# Altium integrated library Linear Technology Operational Amplifiers (LT2000-LT6000).IntLib: 1710 symbols (part 22 of 75)
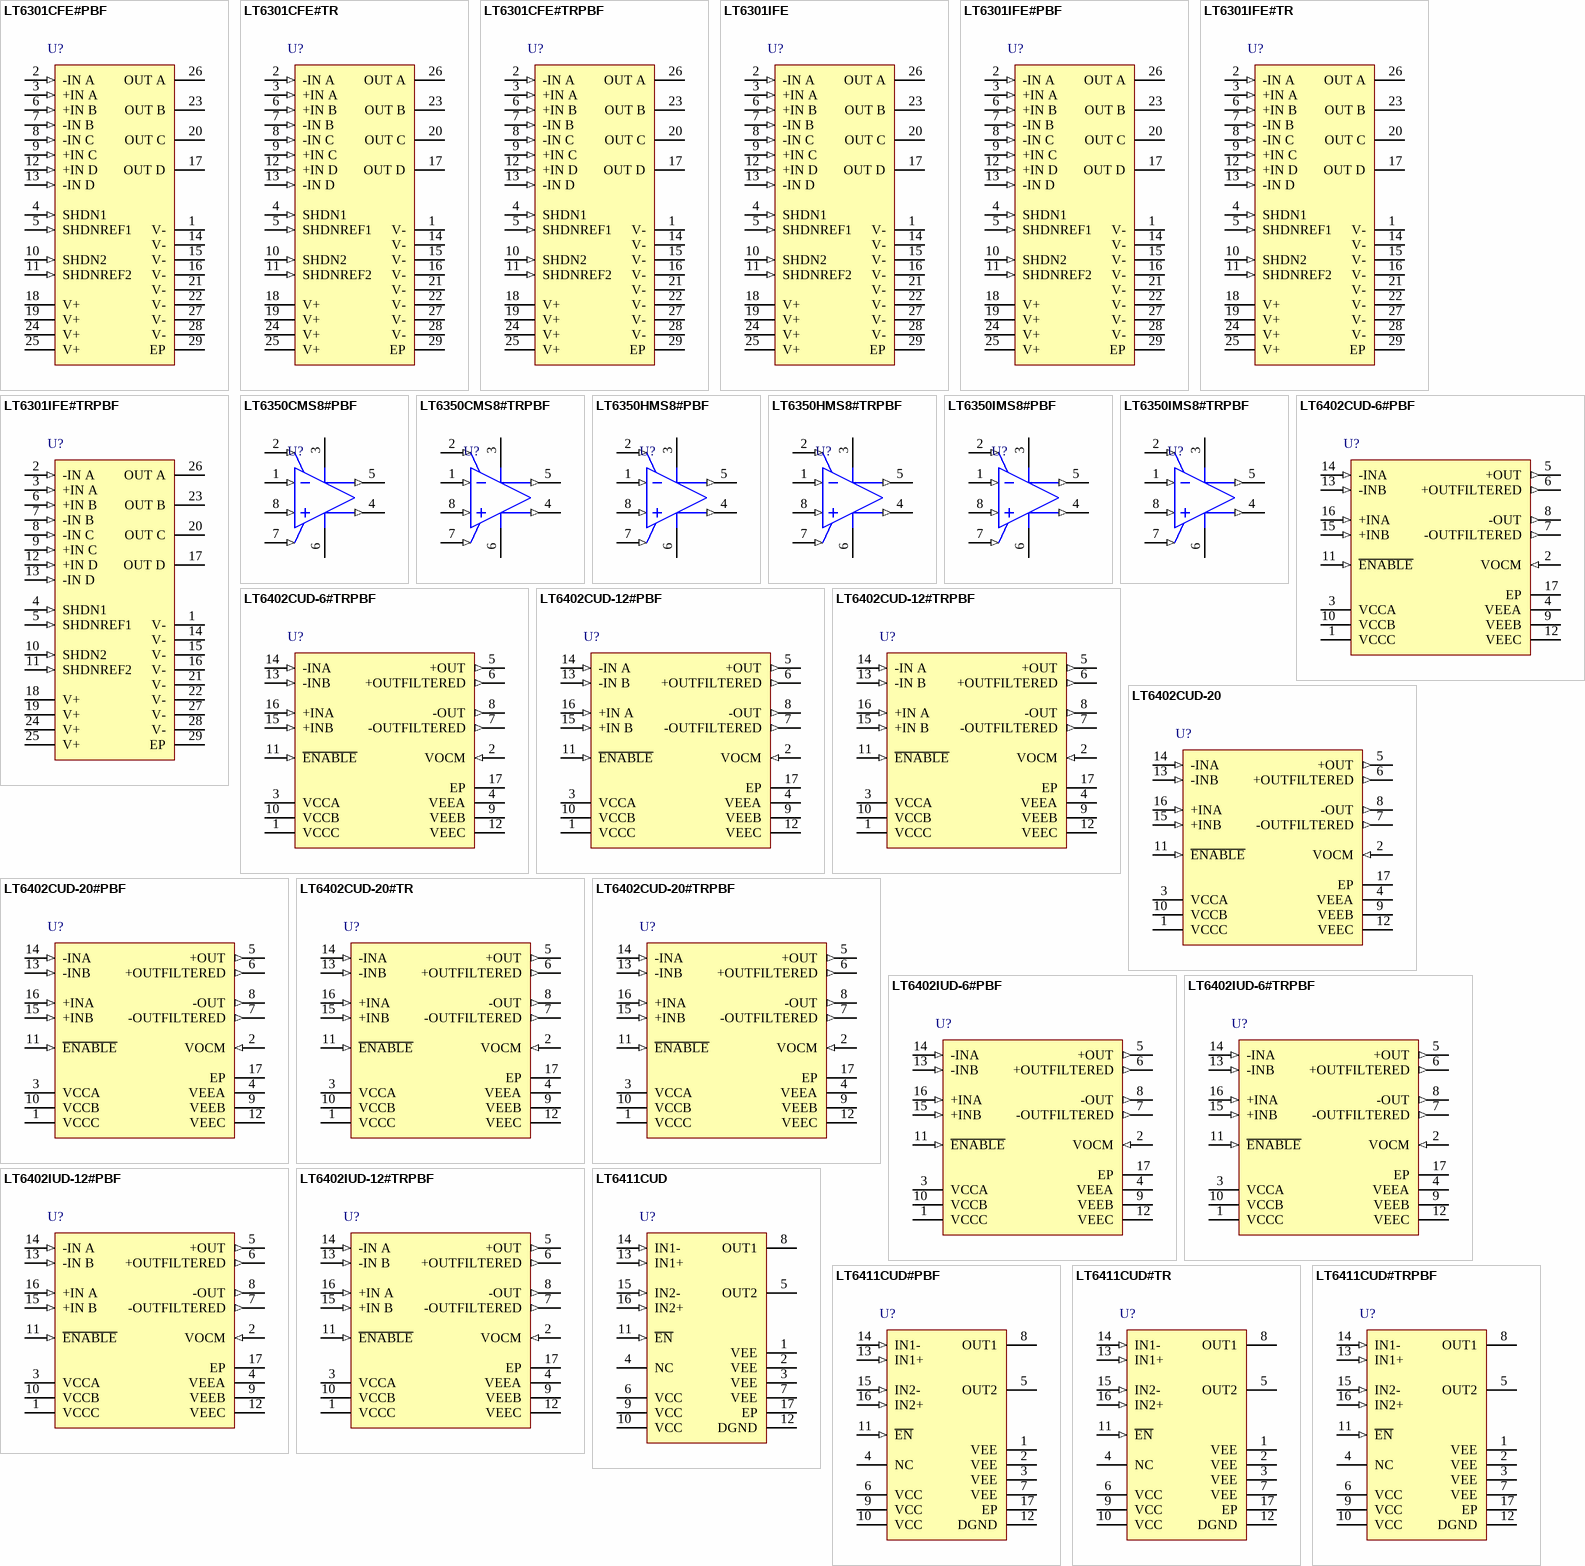
[diagram p101: symbols LT6301CFE#PBF to LT6411CUD#TRPBF]

## LT6411CUD
designator U?
Dual Channel, 650 MHz Differential ADC Driver with Dual Selectable Gain Amplifier, 650 MHz Typical GBW, 3300 V/us Typical SR, 4.5 to 12.6 V, 16-Pin QFN (UD-16), Commercial; Linear Technology Part Number: LT6411; Manufacturer: Linear Technology; PartNumber: LT6411CUD; Channels (#): 2; GBW (MHz) Typical: 650; Is (mA) Typical: 16; SR (V/us) Typical: 3300; Vos (mV) Guaranteed: 10; Vos (mV) Typical: 3; Vs Max (V): 12.6; Vs Min (V): 4.5; PackageReference: LT-UD-16; PackageDescription: 16-Lead Plastic QFN, Body 3.00 x 3.00 mm, Pitch 0.5 mm; Type: VFB, DIFF; Mounting Technology: Surface Mount; Code_JEDEC: MO-220; ComponentLink1Description: Manufacturer URL; ComponentLink1URL: http://www.linear.com/; ComponentLink2Description: Datasheet; ComponentLink2URL: http://cds.linear.com/docs/en/datasheet/6411f.pdf; ComponentLink3Description: Package Specification; ComponentLink3URL: http://cds.linear.com/docs/en/packaging/QFN_16_05-08-1691.pdf
footprint LT-UD-16_N (QFN, 16-Leads, Body 3x3mm, Pitch 0.5mm, Thermal Pad 1.45x1.45mm, IPC Medium Density)
footprint LT-UD-16_L (QFN, 16-Leads, Body 3x3mm, Pitch 0.5mm, Thermal Pad 1.45x1.45mm, IPC High Density)
footprint LT-UD-16_M (QFN, 16-Leads, Body 3x3mm, Pitch 0.5mm, Thermal Pad 1.45x1.45mm, IPC Low Density)
pins: 1 VEE (power) "Negative Supply Voltage. VEE pins are not internally connected to each other and must all be connected externally. Proper supply bypassing is necessary for best performance. See the Applications Information section.", 2 VEE (power) "Negative Supply Voltage. VEE pins are not internally connected to each other and must all be connected externally. Proper supply bypassing is necessary for best performance. See the Applications Information section.", 3 VEE (power) "Negative Supply Voltage for Output Stage. VEE pins are not internally connected to each other and must all be connected externally. Proper supply bypassing is necessary for best performance. See the Applications Information (See Datasheet)", 4 NC "This pin is not internally connected.", 5 OUT2 (hiz) "Output of Channel 2. The gain between the input and the output of this channel is set by the connection of the channel 2 input pins. See Table 1 in Applications Information for details.", 6 VCC (power) "Positive Supply Voltage for Output Stage. VCC pins are not internally connected to each other and must all be connected externally. Proper supply bypassing is necessary for best performance. See the Applications Information (See Datasheet)", 7 VEE (power) "Negative Supply Voltage for Output Stage. VEE pins are not internally connected to each other and must all be connected externally. Proper supply bypassing is necessary for best performance. See the Applications Information (See Datasheet)", 8 OUT1 (hiz) "Output of Channel 1. The gain between the input and the output of this channel is set by the connection of the channel 1 input pins. See Table 1 in Applications Information for details.", 9 VCC (power) "Positive Supply Voltage for Output Stage. VCC pins are not internally connected to each other and must all be connected externally. Proper supply bypassing is necessary for best performance. See the Applications Information (See Datasheet)", 10 VCC (power) "Positive Supply Voltage. VCC pins are not internally connected to each other and must all be connected externally. Proper supply bypassing is necessary for best performance. See the Applications Information section.", 11 ~{EN} (in) "Enable Control Pin. An internal pull-up resistor of 46k will turn the part off if the pin is allowed to fl oat and defi nes the pin’s impedance. When the pin is pulled low, the part is enabled.", 12 DGND (power) "Digital Ground Reference for Enable Pin. This pin is normally connected to ground.", 13 IN1+ (in) "Channel 1 Positive Input. This pin has a nominal impedance of 400k ohm and does not have an internal termination resistor.", 14 IN1- (in) "This pin connects to the internal resistor network of the channel 1 amplifier, connecting by a 370ohm resistor to the inverting input.", 15 IN2- (in) "This pin connects to the internal resistor network of the channel 2 amplifier, connecting by a 370ohm resistor to the inverting input.", 16 IN2+ (in) "Channel 2 Positive Input. This pin has a nominal impedance of 400k ohm and does not have an internal termination resistor.", 17 EP (power) "The pad is internally connected to VEE (Pin 1). If split supplies are used, do not tie the pad to ground."

## LT6411CUD#PBF
designator U?
Dual Channel, 650 MHz Differential ADC Driver with Dual Selectable Gain Amplifier, 650 MHz Typical GBW, 3300 V/us Typical SR, 4.5 to 12.6 V, 16-Pin QFN (UD-16), Commercial, Pb-Free; Linear Technology Part Number: LT6411; Manufacturer: Linear Technology; PartNumber: LT6411CUD#PBF; Channels (#): 2; GBW (MHz) Typical: 650; Is (mA) Typical: 16; SR (V/us) Typical: 3300; Vos (mV) Guaranteed: 10; Vos (mV) Typical: 3; Vs Max (V): 12.6; Vs Min (V): 4.5; PackageReference: LT-UD-16; PackageDescription: 16-Lead Plastic QFN, Body 3.00 x 3.00 mm, Pitch 0.5 mm; Supplier 1: Digi-Key; Supplier Part Number 1: LT6411CUD#PBF-ND; RoHS: Pb-Free; Type: VFB, DIFF; Mounting Technology: Surface Mount; Code_JEDEC: MO-220; ComponentLink1Description: Manufacturer URL; ComponentLink1URL: http://www.linear.com/; ComponentLink2Description: Datasheet; ComponentLink2URL: http://cds.linear.com/docs/en/datasheet/6411f.pdf; ComponentLink3Description: Package Specification; ComponentLink3URL: http://cds.linear.com/docs/en/packaging/QFN_16_05-08-1691.pdf
footprint LT-UD-16_N (QFN, 16-Leads, Body 3x3mm, Pitch 0.5mm, Thermal Pad 1.45x1.45mm, IPC Medium Density)
footprint LT-UD-16_L (QFN, 16-Leads, Body 3x3mm, Pitch 0.5mm, Thermal Pad 1.45x1.45mm, IPC High Density)
footprint LT-UD-16_M (QFN, 16-Leads, Body 3x3mm, Pitch 0.5mm, Thermal Pad 1.45x1.45mm, IPC Low Density)
pins: 1 VEE (power) "Negative Supply Voltage. VEE pins are not internally connected to each other and must all be connected externally. Proper supply bypassing is necessary for best performance. See the Applications Information section.", 2 VEE (power) "Negative Supply Voltage. VEE pins are not internally connected to each other and must all be connected externally. Proper supply bypassing is necessary for best performance. See the Applications Information section.", 3 VEE (power) "Negative Supply Voltage for Output Stage. VEE pins are not internally connected to each other and must all be connected externally. Proper supply bypassing is necessary for best performance. See the Applications Information (See Datasheet)", 4 NC "This pin is not internally connected.", 5 OUT2 (hiz) "Output of Channel 2. The gain between the input and the output of this channel is set by the connection of the channel 2 input pins. See Table 1 in Applications Information for details.", 6 VCC (power) "Positive Supply Voltage for Output Stage. VCC pins are not internally connected to each other and must all be connected externally. Proper supply bypassing is necessary for best performance. See the Applications Information (See Datasheet)", 7 VEE (power) "Negative Supply Voltage for Output Stage. VEE pins are not internally connected to each other and must all be connected externally. Proper supply bypassing is necessary for best performance. See the Applications Information (See Datasheet)", 8 OUT1 (hiz) "Output of Channel 1. The gain between the input and the output of this channel is set by the connection of the channel 1 input pins. See Table 1 in Applications Information for details.", 9 VCC (power) "Positive Supply Voltage for Output Stage. VCC pins are not internally connected to each other and must all be connected externally. Proper supply bypassing is necessary for best performance. See the Applications Information (See Datasheet)", 10 VCC (power) "Positive Supply Voltage. VCC pins are not internally connected to each other and must all be connected externally. Proper supply bypassing is necessary for best performance. See the Applications Information section.", 11 ~{EN} (in) "Enable Control Pin. An internal pull-up resistor of 46k will turn the part off if the pin is allowed to fl oat and defi nes the pin’s impedance. When the pin is pulled low, the part is enabled.", 12 DGND (power) "Digital Ground Reference for Enable Pin. This pin is normally connected to ground.", 13 IN1+ (in) "Channel 1 Positive Input. This pin has a nominal impedance of 400k ohm and does not have an internal termination resistor.", 14 IN1- (in) "This pin connects to the internal resistor network of the channel 1 amplifier, connecting by a 370ohm resistor to the inverting input.", 15 IN2- (in) "This pin connects to the internal resistor network of the channel 2 amplifier, connecting by a 370ohm resistor to the inverting input.", 16 IN2+ (in) "Channel 2 Positive Input. This pin has a nominal impedance of 400k ohm and does not have an internal termination resistor.", 17 EP (power) "The pad is internally connected to VEE (Pin 1). If split supplies are used, do not tie the pad to ground."

## LT6411CUD#TR
designator U?
Dual Channel, 650 MHz Differential ADC Driver with Dual Selectable Gain Amplifier, 650 MHz Typical GBW, 3300 V/us Typical SR, 4.5 to 12.6 V, 16-Pin QFN (UD-16), Commercial, Reel; Linear Technology Part Number: LT6411; Manufacturer: Linear Technology; PartNumber: LT6411CUD#TR; Channels (#): 2; GBW (MHz) Typical: 650; Is (mA) Typical: 16; SR (V/us) Typical: 3300; Vos (mV) Guaranteed: 10; Vos (mV) Typical: 3; Vs Max (V): 12.6; Vs Min (V): 4.5; PackageReference: LT-UD-16; PackageDescription: 16-Lead Plastic QFN, Body 3.00 x 3.00 mm, Pitch 0.5 mm; Packing: Reel; Type: VFB, DIFF; Mounting Technology: Surface Mount; Code_JEDEC: MO-220; ComponentLink1Description: Manufacturer URL; ComponentLink1URL: http://www.linear.com/; ComponentLink2Description: Datasheet; ComponentLink2URL: http://cds.linear.com/docs/en/datasheet/6411f.pdf; ComponentLink3Description: Package Specification; ComponentLink3URL: http://cds.linear.com/docs/en/packaging/QFN_16_05-08-1691.pdf
footprint LT-UD-16_N (QFN, 16-Leads, Body 3x3mm, Pitch 0.5mm, Thermal Pad 1.45x1.45mm, IPC Medium Density)
footprint LT-UD-16_L (QFN, 16-Leads, Body 3x3mm, Pitch 0.5mm, Thermal Pad 1.45x1.45mm, IPC High Density)
footprint LT-UD-16_M (QFN, 16-Leads, Body 3x3mm, Pitch 0.5mm, Thermal Pad 1.45x1.45mm, IPC Low Density)
pins: 1 VEE (power) "Negative Supply Voltage. VEE pins are not internally connected to each other and must all be connected externally. Proper supply bypassing is necessary for best performance. See the Applications Information section.", 2 VEE (power) "Negative Supply Voltage. VEE pins are not internally connected to each other and must all be connected externally. Proper supply bypassing is necessary for best performance. See the Applications Information section.", 3 VEE (power) "Negative Supply Voltage for Output Stage. VEE pins are not internally connected to each other and must all be connected externally. Proper supply bypassing is necessary for best performance. See the Applications Information (See Datasheet)", 4 NC "This pin is not internally connected.", 5 OUT2 (hiz) "Output of Channel 2. The gain between the input and the output of this channel is set by the connection of the channel 2 input pins. See Table 1 in Applications Information for details.", 6 VCC (power) "Positive Supply Voltage for Output Stage. VCC pins are not internally connected to each other and must all be connected externally. Proper supply bypassing is necessary for best performance. See the Applications Information (See Datasheet)", 7 VEE (power) "Negative Supply Voltage for Output Stage. VEE pins are not internally connected to each other and must all be connected externally. Proper supply bypassing is necessary for best performance. See the Applications Information (See Datasheet)", 8 OUT1 (hiz) "Output of Channel 1. The gain between the input and the output of this channel is set by the connection of the channel 1 input pins. See Table 1 in Applications Information for details.", 9 VCC (power) "Positive Supply Voltage for Output Stage. VCC pins are not internally connected to each other and must all be connected externally. Proper supply bypassing is necessary for best performance. See the Applications Information (See Datasheet)", 10 VCC (power) "Positive Supply Voltage. VCC pins are not internally connected to each other and must all be connected externally. Proper supply bypassing is necessary for best performance. See the Applications Information section.", 11 ~{EN} (in) "Enable Control Pin. An internal pull-up resistor of 46k will turn the part off if the pin is allowed to fl oat and defi nes the pin’s impedance. When the pin is pulled low, the part is enabled.", 12 DGND (power) "Digital Ground Reference for Enable Pin. This pin is normally connected to ground.", 13 IN1+ (in) "Channel 1 Positive Input. This pin has a nominal impedance of 400k ohm and does not have an internal termination resistor.", 14 IN1- (in) "This pin connects to the internal resistor network of the channel 1 amplifier, connecting by a 370ohm resistor to the inverting input.", 15 IN2- (in) "This pin connects to the internal resistor network of the channel 2 amplifier, connecting by a 370ohm resistor to the inverting input.", 16 IN2+ (in) "Channel 2 Positive Input. This pin has a nominal impedance of 400k ohm and does not have an internal termination resistor.", 17 EP (power) "The pad is internally connected to VEE (Pin 1). If split supplies are used, do not tie the pad to ground."

## LT6411CUD#TRPBF
designator U?
Dual Channel, 650 MHz Differential ADC Driver with Dual Selectable Gain Amplifier, 650 MHz Typical GBW, 3300 V/us Typical SR, 4.5 to 12.6 V, 16-Pin QFN (UD-16), Commercial, Pb-Free, Reel; Linear Technology Part Number: LT6411; Manufacturer: Linear Technology; PartNumber: LT6411CUD#TRPBF; Channels (#): 2; GBW (MHz) Typical: 650; Is (mA) Typical: 16; SR (V/us) Typical: 3300; Vos (mV) Guaranteed: 10; Vos (mV) Typical: 3; Vs Max (V): 12.6; Vs Min (V): 4.5; PackageReference: LT-UD-16; PackageDescription: 16-Lead Plastic QFN, Body 3.00 x 3.00 mm, Pitch 0.5 mm; Supplier 1: Digi-Key; Supplier Part Number 1: LT6411CUD#TRPBF-ND; Packing: Reel; RoHS: Pb-Free; Type: VFB, DIFF; Mounting Technology: Surface Mount; Code_JEDEC: MO-220; ComponentLink1Description: Manufacturer URL; ComponentLink1URL: http://www.linear.com/; ComponentLink2Description: Datasheet; ComponentLink2URL: http://cds.linear.com/docs/en/datasheet/6411f.pdf; ComponentLink3Description: Package Specification; ComponentLink3URL: http://cds.linear.com/docs/en/packaging/QFN_16_05-08-1691.pdf
footprint LT-UD-16_N (QFN, 16-Leads, Body 3x3mm, Pitch 0.5mm, Thermal Pad 1.45x1.45mm, IPC Medium Density)
footprint LT-UD-16_L (QFN, 16-Leads, Body 3x3mm, Pitch 0.5mm, Thermal Pad 1.45x1.45mm, IPC High Density)
footprint LT-UD-16_M (QFN, 16-Leads, Body 3x3mm, Pitch 0.5mm, Thermal Pad 1.45x1.45mm, IPC Low Density)
pins: 1 VEE (power) "Negative Supply Voltage. VEE pins are not internally connected to each other and must all be connected externally. Proper supply bypassing is necessary for best performance. See the Applications Information section.", 2 VEE (power) "Negative Supply Voltage. VEE pins are not internally connected to each other and must all be connected externally. Proper supply bypassing is necessary for best performance. See the Applications Information section.", 3 VEE (power) "Negative Supply Voltage for Output Stage. VEE pins are not internally connected to each other and must all be connected externally. Proper supply bypassing is necessary for best performance. See the Applications Information (See Datasheet)", 4 NC "This pin is not internally connected.", 5 OUT2 (hiz) "Output of Channel 2. The gain between the input and the output of this channel is set by the connection of the channel 2 input pins. See Table 1 in Applications Information for details.", 6 VCC (power) "Positive Supply Voltage for Output Stage. VCC pins are not internally connected to each other and must all be connected externally. Proper supply bypassing is necessary for best performance. See the Applications Information (See Datasheet)", 7 VEE (power) "Negative Supply Voltage for Output Stage. VEE pins are not internally connected to each other and must all be connected externally. Proper supply bypassing is necessary for best performance. See the Applications Information (See Datasheet)", 8 OUT1 (hiz) "Output of Channel 1. The gain between the input and the output of this channel is set by the connection of the channel 1 input pins. See Table 1 in Applications Information for details.", 9 VCC (power) "Positive Supply Voltage for Output Stage. VCC pins are not internally connected to each other and must all be connected externally. Proper supply bypassing is necessary for best performance. See the Applications Information (See Datasheet)", 10 VCC (power) "Positive Supply Voltage. VCC pins are not internally connected to each other and must all be connected externally. Proper supply bypassing is necessary for best performance. See the Applications Information section.", 11 ~{EN} (in) "Enable Control Pin. An internal pull-up resistor of 46k will turn the part off if the pin is allowed to fl oat and defi nes the pin’s impedance. When the pin is pulled low, the part is enabled.", 12 DGND (power) "Digital Ground Reference for Enable Pin. This pin is normally connected to ground.", 13 IN1+ (in) "Channel 1 Positive Input. This pin has a nominal impedance of 400k ohm and does not have an internal termination resistor.", 14 IN1- (in) "This pin connects to the internal resistor network of the channel 1 amplifier, connecting by a 370ohm resistor to the inverting input.", 15 IN2- (in) "This pin connects to the internal resistor network of the channel 2 amplifier, connecting by a 370ohm resistor to the inverting input.", 16 IN2+ (in) "Channel 2 Positive Input. This pin has a nominal impedance of 400k ohm and does not have an internal termination resistor.", 17 EP (power) "The pad is internally connected to VEE (Pin 1). If split supplies are used, do not tie the pad to ground."

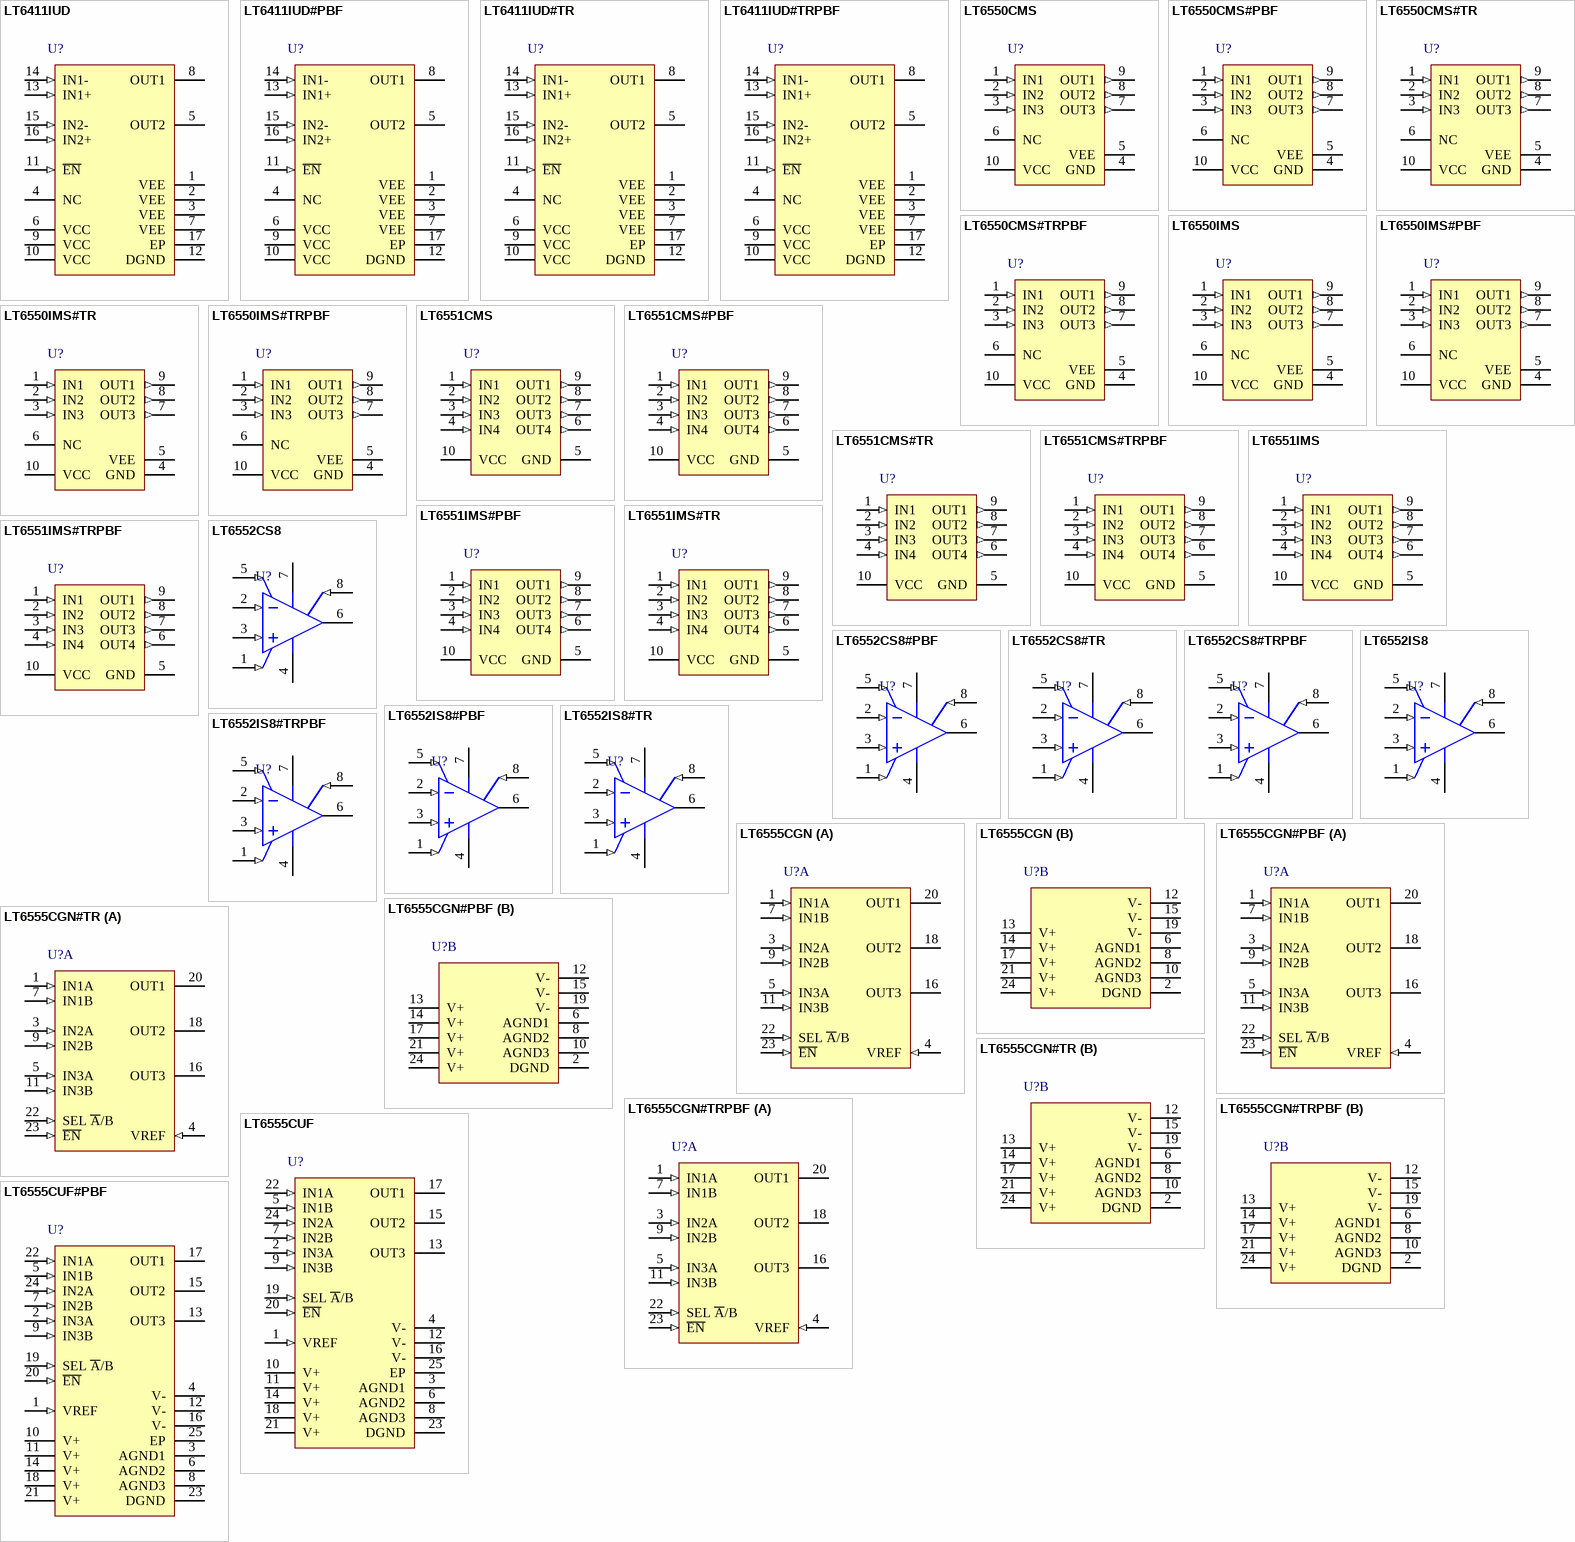
[diagram p32: symbols LT6411IUD to LT6555CUF#PBF]

## LT6411IUD
designator U?
Dual Channel, 650 MHz Differential ADC Driver with Dual Selectable Gain Amplifier, 650 MHz Typical GBW, 3300 V/us Typical SR, 4.5 to 12.6 V, 16-Pin QFN (UD-16), Industrial; Linear Technology Part Number: LT6411; Manufacturer: Linear Technology; PartNumber: LT6411IUD; Channels (#): 2; GBW (MHz) Typical: 650; Is (mA) Typical: 16; SR (V/us) Typical: 3300; Vos (mV) Guaranteed: 10; Vos (mV) Typical: 3; Vs Max (V): 12.6; Vs Min (V): 4.5; PackageReference: LT-UD-16; PackageDescription: 16-Lead Plastic QFN, Body 3.00 x 3.00 mm, Pitch 0.5 mm; Type: VFB, DIFF; Mounting Technology: Surface Mount; Code_JEDEC: MO-220; ComponentLink1Description: Manufacturer URL; ComponentLink1URL: http://www.linear.com/; ComponentLink2Description: Datasheet; ComponentLink2URL: http://cds.linear.com/docs/en/datasheet/6411f.pdf; ComponentLink3Description: Package Specification; ComponentLink3URL: http://cds.linear.com/docs/en/packaging/QFN_16_05-08-1691.pdf
footprint LT-UD-16_N (QFN, 16-Leads, Body 3x3mm, Pitch 0.5mm, Thermal Pad 1.45x1.45mm, IPC Medium Density)
footprint LT-UD-16_L (QFN, 16-Leads, Body 3x3mm, Pitch 0.5mm, Thermal Pad 1.45x1.45mm, IPC High Density)
footprint LT-UD-16_M (QFN, 16-Leads, Body 3x3mm, Pitch 0.5mm, Thermal Pad 1.45x1.45mm, IPC Low Density)
pins: 1 VEE (power) "Negative Supply Voltage. VEE pins are not internally connected to each other and must all be connected externally. Proper supply bypassing is necessary for best performance. See the Applications Information section.", 2 VEE (power) "Negative Supply Voltage. VEE pins are not internally connected to each other and must all be connected externally. Proper supply bypassing is necessary for best performance. See the Applications Information section.", 3 VEE (power) "Negative Supply Voltage for Output Stage. VEE pins are not internally connected to each other and must all be connected externally. Proper supply bypassing is necessary for best performance. See the Applications Information (See Datasheet)", 4 NC "This pin is not internally connected.", 5 OUT2 (hiz) "Output of Channel 2. The gain between the input and the output of this channel is set by the connection of the channel 2 input pins. See Table 1 in Applications Information for details.", 6 VCC (power) "Positive Supply Voltage for Output Stage. VCC pins are not internally connected to each other and must all be connected externally. Proper supply bypassing is necessary for best performance. See the Applications Information (See Datasheet)", 7 VEE (power) "Negative Supply Voltage for Output Stage. VEE pins are not internally connected to each other and must all be connected externally. Proper supply bypassing is necessary for best performance. See the Applications Information (See Datasheet)", 8 OUT1 (hiz) "Output of Channel 1. The gain between the input and the output of this channel is set by the connection of the channel 1 input pins. See Table 1 in Applications Information for details.", 9 VCC (power) "Positive Supply Voltage for Output Stage. VCC pins are not internally connected to each other and must all be connected externally. Proper supply bypassing is necessary for best performance. See the Applications Information (See Datasheet)", 10 VCC (power) "Positive Supply Voltage. VCC pins are not internally connected to each other and must all be connected externally. Proper supply bypassing is necessary for best performance. See the Applications Information section.", 11 ~{EN} (in) "Enable Control Pin. An internal pull-up resistor of 46k will turn the part off if the pin is allowed to fl oat and defi nes the pin’s impedance. When the pin is pulled low, the part is enabled.", 12 DGND (power) "Digital Ground Reference for Enable Pin. This pin is normally connected to ground.", 13 IN1+ (in) "Channel 1 Positive Input. This pin has a nominal impedance of 400k ohm and does not have an internal termination resistor.", 14 IN1- (in) "This pin connects to the internal resistor network of the channel 1 amplifier, connecting by a 370ohm resistor to the inverting input.", 15 IN2- (in) "This pin connects to the internal resistor network of the channel 2 amplifier, connecting by a 370ohm resistor to the inverting input.", 16 IN2+ (in) "Channel 2 Positive Input. This pin has a nominal impedance of 400k ohm and does not have an internal termination resistor.", 17 EP (power) "The pad is internally connected to VEE (Pin 1). If split supplies are used, do not tie the pad to ground."

## LT6411IUD#PBF
designator U?
Dual Channel, 650 MHz Differential ADC Driver with Dual Selectable Gain Amplifier, 650 MHz Typical GBW, 3300 V/us Typical SR, 4.5 to 12.6 V, 16-Pin QFN (UD-16), Industrial, Pb-Free; Linear Technology Part Number: LT6411; Manufacturer: Linear Technology; PartNumber: LT6411IUD#PBF; Channels (#): 2; GBW (MHz) Typical: 650; Is (mA) Typical: 16; SR (V/us) Typical: 3300; Vos (mV) Guaranteed: 10; Vos (mV) Typical: 3; Vs Max (V): 12.6; Vs Min (V): 4.5; PackageReference: LT-UD-16; PackageDescription: 16-Lead Plastic QFN, Body 3.00 x 3.00 mm, Pitch 0.5 mm; Supplier 1: Digi-Key; Supplier Part Number 1: LT6411IUD#PBF-ND; Supplier 2: Newark; Supplier Part Number 2: 57M9436; RoHS: Pb-Free; Type: VFB, DIFF; Mounting Technology: Surface Mount; Code_JEDEC: MO-220; ComponentLink1Description: Manufacturer URL; ComponentLink1URL: http://www.linear.com/; ComponentLink2Description: Datasheet; ComponentLink2URL: http://cds.linear.com/docs/en/datasheet/6411f.pdf; ComponentLink3Description: Package Specification; ComponentLink3URL: http://cds.linear.com/docs/en/packaging/QFN_16_05-08-1691.pdf
footprint LT-UD-16_N (QFN, 16-Leads, Body 3x3mm, Pitch 0.5mm, Thermal Pad 1.45x1.45mm, IPC Medium Density)
footprint LT-UD-16_L (QFN, 16-Leads, Body 3x3mm, Pitch 0.5mm, Thermal Pad 1.45x1.45mm, IPC High Density)
footprint LT-UD-16_M (QFN, 16-Leads, Body 3x3mm, Pitch 0.5mm, Thermal Pad 1.45x1.45mm, IPC Low Density)
pins: 1 VEE (power) "Negative Supply Voltage. VEE pins are not internally connected to each other and must all be connected externally. Proper supply bypassing is necessary for best performance. See the Applications Information section.", 2 VEE (power) "Negative Supply Voltage. VEE pins are not internally connected to each other and must all be connected externally. Proper supply bypassing is necessary for best performance. See the Applications Information section.", 3 VEE (power) "Negative Supply Voltage for Output Stage. VEE pins are not internally connected to each other and must all be connected externally. Proper supply bypassing is necessary for best performance. See the Applications Information (See Datasheet)", 4 NC "This pin is not internally connected.", 5 OUT2 (hiz) "Output of Channel 2. The gain between the input and the output of this channel is set by the connection of the channel 2 input pins. See Table 1 in Applications Information for details.", 6 VCC (power) "Positive Supply Voltage for Output Stage. VCC pins are not internally connected to each other and must all be connected externally. Proper supply bypassing is necessary for best performance. See the Applications Information (See Datasheet)", 7 VEE (power) "Negative Supply Voltage for Output Stage. VEE pins are not internally connected to each other and must all be connected externally. Proper supply bypassing is necessary for best performance. See the Applications Information (See Datasheet)", 8 OUT1 (hiz) "Output of Channel 1. The gain between the input and the output of this channel is set by the connection of the channel 1 input pins. See Table 1 in Applications Information for details.", 9 VCC (power) "Positive Supply Voltage for Output Stage. VCC pins are not internally connected to each other and must all be connected externally. Proper supply bypassing is necessary for best performance. See the Applications Information (See Datasheet)", 10 VCC (power) "Positive Supply Voltage. VCC pins are not internally connected to each other and must all be connected externally. Proper supply bypassing is necessary for best performance. See the Applications Information section.", 11 ~{EN} (in) "Enable Control Pin. An internal pull-up resistor of 46k will turn the part off if the pin is allowed to fl oat and defi nes the pin’s impedance. When the pin is pulled low, the part is enabled.", 12 DGND (power) "Digital Ground Reference for Enable Pin. This pin is normally connected to ground.", 13 IN1+ (in) "Channel 1 Positive Input. This pin has a nominal impedance of 400k ohm and does not have an internal termination resistor.", 14 IN1- (in) "This pin connects to the internal resistor network of the channel 1 amplifier, connecting by a 370ohm resistor to the inverting input.", 15 IN2- (in) "This pin connects to the internal resistor network of the channel 2 amplifier, connecting by a 370ohm resistor to the inverting input.", 16 IN2+ (in) "Channel 2 Positive Input. This pin has a nominal impedance of 400k ohm and does not have an internal termination resistor.", 17 EP (power) "The pad is internally connected to VEE (Pin 1). If split supplies are used, do not tie the pad to ground."

## LT6411IUD#TR
designator U?
Dual Channel, 650 MHz Differential ADC Driver with Dual Selectable Gain Amplifier, 650 MHz Typical GBW, 3300 V/us Typical SR, 4.5 to 12.6 V, 16-Pin QFN (UD-16), Industrial, Reel; Linear Technology Part Number: LT6411; Manufacturer: Linear Technology; PartNumber: LT6411IUD#TR; Channels (#): 2; GBW (MHz) Typical: 650; Is (mA) Typical: 16; SR (V/us) Typical: 3300; Vos (mV) Guaranteed: 10; Vos (mV) Typical: 3; Vs Max (V): 12.6; Vs Min (V): 4.5; PackageReference: LT-UD-16; PackageDescription: 16-Lead Plastic QFN, Body 3.00 x 3.00 mm, Pitch 0.5 mm; Packing: Reel; Type: VFB, DIFF; Mounting Technology: Surface Mount; Code_JEDEC: MO-220; ComponentLink1Description: Manufacturer URL; ComponentLink1URL: http://www.linear.com/; ComponentLink2Description: Datasheet; ComponentLink2URL: http://cds.linear.com/docs/en/datasheet/6411f.pdf; ComponentLink3Description: Package Specification; ComponentLink3URL: http://cds.linear.com/docs/en/packaging/QFN_16_05-08-1691.pdf
footprint LT-UD-16_N (QFN, 16-Leads, Body 3x3mm, Pitch 0.5mm, Thermal Pad 1.45x1.45mm, IPC Medium Density)
footprint LT-UD-16_L (QFN, 16-Leads, Body 3x3mm, Pitch 0.5mm, Thermal Pad 1.45x1.45mm, IPC High Density)
footprint LT-UD-16_M (QFN, 16-Leads, Body 3x3mm, Pitch 0.5mm, Thermal Pad 1.45x1.45mm, IPC Low Density)
pins: 1 VEE (power) "Negative Supply Voltage. VEE pins are not internally connected to each other and must all be connected externally. Proper supply bypassing is necessary for best performance. See the Applications Information section.", 2 VEE (power) "Negative Supply Voltage. VEE pins are not internally connected to each other and must all be connected externally. Proper supply bypassing is necessary for best performance. See the Applications Information section.", 3 VEE (power) "Negative Supply Voltage for Output Stage. VEE pins are not internally connected to each other and must all be connected externally. Proper supply bypassing is necessary for best performance. See the Applications Information (See Datasheet)", 4 NC "This pin is not internally connected.", 5 OUT2 (hiz) "Output of Channel 2. The gain between the input and the output of this channel is set by the connection of the channel 2 input pins. See Table 1 in Applications Information for details.", 6 VCC (power) "Positive Supply Voltage for Output Stage. VCC pins are not internally connected to each other and must all be connected externally. Proper supply bypassing is necessary for best performance. See the Applications Information (See Datasheet)", 7 VEE (power) "Negative Supply Voltage for Output Stage. VEE pins are not internally connected to each other and must all be connected externally. Proper supply bypassing is necessary for best performance. See the Applications Information (See Datasheet)", 8 OUT1 (hiz) "Output of Channel 1. The gain between the input and the output of this channel is set by the connection of the channel 1 input pins. See Table 1 in Applications Information for details.", 9 VCC (power) "Positive Supply Voltage for Output Stage. VCC pins are not internally connected to each other and must all be connected externally. Proper supply bypassing is necessary for best performance. See the Applications Information (See Datasheet)", 10 VCC (power) "Positive Supply Voltage. VCC pins are not internally connected to each other and must all be connected externally. Proper supply bypassing is necessary for best performance. See the Applications Information section.", 11 ~{EN} (in) "Enable Control Pin. An internal pull-up resistor of 46k will turn the part off if the pin is allowed to fl oat and defi nes the pin’s impedance. When the pin is pulled low, the part is enabled.", 12 DGND (power) "Digital Ground Reference for Enable Pin. This pin is normally connected to ground.", 13 IN1+ (in) "Channel 1 Positive Input. This pin has a nominal impedance of 400k ohm and does not have an internal termination resistor.", 14 IN1- (in) "This pin connects to the internal resistor network of the channel 1 amplifier, connecting by a 370ohm resistor to the inverting input.", 15 IN2- (in) "This pin connects to the internal resistor network of the channel 2 amplifier, connecting by a 370ohm resistor to the inverting input.", 16 IN2+ (in) "Channel 2 Positive Input. This pin has a nominal impedance of 400k ohm and does not have an internal termination resistor.", 17 EP (power) "The pad is internally connected to VEE (Pin 1). If split supplies are used, do not tie the pad to ground."

## LT6411IUD#TRPBF
designator U?
Dual Channel, 650 MHz Differential ADC Driver with Dual Selectable Gain Amplifier, 650 MHz Typical GBW, 3300 V/us Typical SR, 4.5 to 12.6 V, 16-Pin QFN (UD-16), Industrial, Pb-Free, Reel; Linear Technology Part Number: LT6411; Manufacturer: Linear Technology; PartNumber: LT6411IUD#TRPBF; Channels (#): 2; GBW (MHz) Typical: 650; Is (mA) Typical: 16; SR (V/us) Typical: 3300; Vos (mV) Guaranteed: 10; Vos (mV) Typical: 3; Vs Max (V): 12.6; Vs Min (V): 4.5; PackageReference: LT-UD-16; PackageDescription: 16-Lead Plastic QFN, Body 3.00 x 3.00 mm, Pitch 0.5 mm; Supplier 1: Digi-Key; Supplier Part Number 1: LT6411IUD#TRPBF-ND; Supplier 2: Newark; Supplier Part Number 2: 57M9438; Packing: Reel; RoHS: Pb-Free; Type: VFB, DIFF; Mounting Technology: Surface Mount; Code_JEDEC: MO-220; ComponentLink1Description: Manufacturer URL; ComponentLink1URL: http://www.linear.com/; ComponentLink2Description: Datasheet; ComponentLink2URL: http://cds.linear.com/docs/en/datasheet/6411f.pdf; ComponentLink3Description: Package Specification; ComponentLink3URL: http://cds.linear.com/docs/en/packaging/QFN_16_05-08-1691.pdf
footprint LT-UD-16_N (QFN, 16-Leads, Body 3x3mm, Pitch 0.5mm, Thermal Pad 1.45x1.45mm, IPC Medium Density)
footprint LT-UD-16_L (QFN, 16-Leads, Body 3x3mm, Pitch 0.5mm, Thermal Pad 1.45x1.45mm, IPC High Density)
footprint LT-UD-16_M (QFN, 16-Leads, Body 3x3mm, Pitch 0.5mm, Thermal Pad 1.45x1.45mm, IPC Low Density)
pins: 1 VEE (power) "Negative Supply Voltage. VEE pins are not internally connected to each other and must all be connected externally. Proper supply bypassing is necessary for best performance. See the Applications Information section.", 2 VEE (power) "Negative Supply Voltage. VEE pins are not internally connected to each other and must all be connected externally. Proper supply bypassing is necessary for best performance. See the Applications Information section.", 3 VEE (power) "Negative Supply Voltage for Output Stage. VEE pins are not internally connected to each other and must all be connected externally. Proper supply bypassing is necessary for best performance. See the Applications Information (See Datasheet)", 4 NC "This pin is not internally connected.", 5 OUT2 (hiz) "Output of Channel 2. The gain between the input and the output of this channel is set by the connection of the channel 2 input pins. See Table 1 in Applications Information for details.", 6 VCC (power) "Positive Supply Voltage for Output Stage. VCC pins are not internally connected to each other and must all be connected externally. Proper supply bypassing is necessary for best performance. See the Applications Information (See Datasheet)", 7 VEE (power) "Negative Supply Voltage for Output Stage. VEE pins are not internally connected to each other and must all be connected externally. Proper supply bypassing is necessary for best performance. See the Applications Information (See Datasheet)", 8 OUT1 (hiz) "Output of Channel 1. The gain between the input and the output of this channel is set by the connection of the channel 1 input pins. See Table 1 in Applications Information for details.", 9 VCC (power) "Positive Supply Voltage for Output Stage. VCC pins are not internally connected to each other and must all be connected externally. Proper supply bypassing is necessary for best performance. See the Applications Information (See Datasheet)", 10 VCC (power) "Positive Supply Voltage. VCC pins are not internally connected to each other and must all be connected externally. Proper supply bypassing is necessary for best performance. See the Applications Information section.", 11 ~{EN} (in) "Enable Control Pin. An internal pull-up resistor of 46k will turn the part off if the pin is allowed to fl oat and defi nes the pin’s impedance. When the pin is pulled low, the part is enabled.", 12 DGND (power) "Digital Ground Reference for Enable Pin. This pin is normally connected to ground.", 13 IN1+ (in) "Channel 1 Positive Input. This pin has a nominal impedance of 400k ohm and does not have an internal termination resistor.", 14 IN1- (in) "This pin connects to the internal resistor network of the channel 1 amplifier, connecting by a 370ohm resistor to the inverting input.", 15 IN2- (in) "This pin connects to the internal resistor network of the channel 2 amplifier, connecting by a 370ohm resistor to the inverting input.", 16 IN2+ (in) "Channel 2 Positive Input. This pin has a nominal impedance of 400k ohm and does not have an internal termination resistor.", 17 EP (power) "The pad is internally connected to VEE (Pin 1). If split supplies are used, do not tie the pad to ground."

## LT6550CMS
designator U?
3 Channel, 3V RGB Driver with Av = 2, 110 MHz Typical GBW, 340 V/us Typical SR, 3 to 12.6 V, 10-Pin SOP (MS-10), Commercial; Linear Technology Part Number: LT6550; Manufacturer: Linear Technology; PartNumber: LT6550CMS; Channels (#): 3; GBW (MHz) Typical: 110; Is (mA) Typical: 9.5; SR (V/us) Typical: 340; Vos (mV) Guaranteed: 35; Vos (mV) Typical: 15; Vs Max (V): 12.6; DatasheetVersion: Rev. A; PackageVersion: Rev E; PackageReference: LT-MS-10; PackageDescription: 10-Lead Plastic MSOP, Body 3 x 3 mm, Pitch 0.5 mm; Supplier 1: Digi-Key; Supplier Part Number 1: LT6550CMS-ND; Type: VIDEO; Vs Min (V): 3; Mounting Technology: Surface Mount; ComponentLink1Description: Manufacturer URL; ComponentLink1URL: http://www.linear.com/; ComponentLink2Description: Datasheet; ComponentLink2URL: http://cds.linear.com/docs/en/datasheet/65501fa.pdf; ComponentLink3Description: Package Specification; ComponentLink3URL: http://cds.linear.com/docs/en/packaging/MSOP_10_05-08-1661.pdf
footprint LT-MS-10_N (SOP, 10-Leads, Body 3x3mm, Pitch 0.50mm, IPC Medium Density)
footprint LT-MS-10_L (SOP, 10-Leads, Body 3x3mm, Pitch 0.50mm, IPC High Density)
footprint LT-MS-10_M (SOP, 10-Leads, Body 3x3mm, Pitch 0.50mm, IPC Low Density)
pins: 1 IN1 (in), 2 IN2 (in), 3 IN3 (in), 4 GND (power), 5 VEE (power), 6 NC, 7 OUT3 (out), 8 OUT2 (out), 9 OUT1 (out), 10 VCC (power)

## LT6550CMS#PBF
designator U?
3 Channel, 3V RGB Driver with Av = 2, 110 MHz Typical GBW, 340 V/us Typical SR, 3 to 12.6 V, 10-Pin SOP (MS-10), Commercial, Pb-Free; Linear Technology Part Number: LT6550; Manufacturer: Linear Technology; PartNumber: LT6550CMS#PBF; Channels (#): 3; GBW (MHz) Typical: 110; Is (mA) Typical: 9.5; SR (V/us) Typical: 340; Vos (mV) Guaranteed: 35; Vos (mV) Typical: 15; Vs Max (V): 12.6; DatasheetVersion: Rev. A; PackageVersion: Rev E; PackageReference: LT-MS-10; PackageDescription: 10-Lead Plastic MSOP, Body 3 x 3 mm, Pitch 0.5 mm; Supplier 1: Digi-Key; Supplier Part Number 1: LT6550CMS#PBF-ND; Supplier 2: Farnell; Supplier Part Number 2: 1330768; Supplier 3: Newark; Supplier Part Number 3: 57M9440; RoHS: Pb-Free; Type: VIDEO; Vs Min (V): 3; Mounting Technology: Surface Mount; ComponentLink1Description: Manufacturer URL; ComponentLink1URL: http://www.linear.com/; ComponentLink2Description: Datasheet; ComponentLink2URL: http://cds.linear.com/docs/en/datasheet/65501fa.pdf; ComponentLink3Description: Package Specification; ComponentLink3URL: http://cds.linear.com/docs/en/packaging/MSOP_10_05-08-1661.pdf
footprint LT-MS-10_N (SOP, 10-Leads, Body 3x3mm, Pitch 0.50mm, IPC Medium Density)
footprint LT-MS-10_L (SOP, 10-Leads, Body 3x3mm, Pitch 0.50mm, IPC High Density)
footprint LT-MS-10_M (SOP, 10-Leads, Body 3x3mm, Pitch 0.50mm, IPC Low Density)
pins: 1 IN1 (in), 2 IN2 (in), 3 IN3 (in), 4 GND (power), 5 VEE (power), 6 NC, 7 OUT3 (out), 8 OUT2 (out), 9 OUT1 (out), 10 VCC (power)

## LT6550CMS#TR
designator U?
3 Channel, 3V RGB Driver with Av = 2, 110 MHz Typical GBW, 340 V/us Typical SR, 3 to 12.6 V, 10-Pin SOP (MS-10), Commercial, Reel; Linear Technology Part Number: LT6550; Manufacturer: Linear Technology; PartNumber: LT6550CMS#TR; Channels (#): 3; GBW (MHz) Typical: 110; Is (mA) Typical: 9.5; SR (V/us) Typical: 340; Vos (mV) Guaranteed: 35; Vos (mV) Typical: 15; Vs Max (V): 12.6; DatasheetVersion: Rev. A; PackageVersion: Rev E; PackageReference: LT-MS-10; PackageDescription: 10-Lead Plastic MSOP, Body 3 x 3 mm, Pitch 0.5 mm; Supplier 1: Digi-Key; Supplier Part Number 1: LT6550CMS#TR-ND; Packing: Reel; Type: VIDEO; Vs Min (V): 3; Mounting Technology: Surface Mount; ComponentLink1Description: Manufacturer URL; ComponentLink1URL: http://www.linear.com/; ComponentLink2Description: Datasheet; ComponentLink2URL: http://cds.linear.com/docs/en/datasheet/65501fa.pdf; ComponentLink3Description: Package Specification; ComponentLink3URL: http://cds.linear.com/docs/en/packaging/MSOP_10_05-08-1661.pdf
footprint LT-MS-10_N (SOP, 10-Leads, Body 3x3mm, Pitch 0.50mm, IPC Medium Density)
footprint LT-MS-10_L (SOP, 10-Leads, Body 3x3mm, Pitch 0.50mm, IPC High Density)
footprint LT-MS-10_M (SOP, 10-Leads, Body 3x3mm, Pitch 0.50mm, IPC Low Density)
pins: 1 IN1 (in), 2 IN2 (in), 3 IN3 (in), 4 GND (power), 5 VEE (power), 6 NC, 7 OUT3 (out), 8 OUT2 (out), 9 OUT1 (out), 10 VCC (power)

## LT6550CMS#TRPBF
designator U?
3 Channel, 3V RGB Driver with Av = 2, 110 MHz Typical GBW, 340 V/us Typical SR, 3 to 12.6 V, 10-Pin SOP (MS-10), Commercial, Pb-Free, Reel; Linear Technology Part Number: LT6550; Manufacturer: Linear Technology; PartNumber: LT6550CMS#TRPBF; Channels (#): 3; GBW (MHz) Typical: 110; Is (mA) Typical: 9.5; SR (V/us) Typical: 340; Vos (mV) Guaranteed: 35; Vos (mV) Typical: 15; Vs Max (V): 12.6; DatasheetVersion: Rev. A; PackageVersion: Rev E; PackageReference: LT-MS-10; PackageDescription: 10-Lead Plastic MSOP, Body 3 x 3 mm, Pitch 0.5 mm; Supplier 1: Digi-Key; Supplier Part Number 1: LT6550CMS#TRPBF-ND; Packing: Reel; RoHS: Pb-Free; Type: VIDEO; Vs Min (V): 3; Mounting Technology: Surface Mount; ComponentLink1Description: Manufacturer URL; ComponentLink1URL: http://www.linear.com/; ComponentLink2Description: Datasheet; ComponentLink2URL: http://cds.linear.com/docs/en/datasheet/65501fa.pdf; ComponentLink3Description: Package Specification; ComponentLink3URL: http://cds.linear.com/docs/en/packaging/MSOP_10_05-08-1661.pdf
footprint LT-MS-10_N (SOP, 10-Leads, Body 3x3mm, Pitch 0.50mm, IPC Medium Density)
footprint LT-MS-10_L (SOP, 10-Leads, Body 3x3mm, Pitch 0.50mm, IPC High Density)
footprint LT-MS-10_M (SOP, 10-Leads, Body 3x3mm, Pitch 0.50mm, IPC Low Density)
pins: 1 IN1 (in), 2 IN2 (in), 3 IN3 (in), 4 GND (power), 5 VEE (power), 6 NC, 7 OUT3 (out), 8 OUT2 (out), 9 OUT1 (out), 10 VCC (power)

## LT6550IMS
designator U?
3 Channel, 3V RGB Driver with Av = 2, 110 MHz Typical GBW, 340 V/us Typical SR, 3 to 12.6 V, 10-Pin SOP (MS-10), Industrial; Linear Technology Part Number: LT6550; Manufacturer: Linear Technology; PartNumber: LT6550IMS; Channels (#): 3; GBW (MHz) Typical: 110; Is (mA) Typical: 9.5; SR (V/us) Typical: 340; Vos (mV) Guaranteed: 35; Vos (mV) Typical: 15; Vs Max (V): 12.6; DatasheetVersion: Rev. A; PackageVersion: Rev E; PackageReference: LT-MS-10; PackageDescription: 10-Lead Plastic MSOP, Body 3 x 3 mm, Pitch 0.5 mm; Supplier 1: Digi-Key; Supplier Part Number 1: LT6550IMS-ND; Type: VIDEO; Vs Min (V): 3; Mounting Technology: Surface Mount; ComponentLink1Description: Manufacturer URL; ComponentLink1URL: http://www.linear.com/; ComponentLink2Description: Datasheet; ComponentLink2URL: http://cds.linear.com/docs/en/datasheet/65501fa.pdf; ComponentLink3Description: Package Specification; ComponentLink3URL: http://cds.linear.com/docs/en/packaging/MSOP_10_05-08-1661.pdf
footprint LT-MS-10_N (SOP, 10-Leads, Body 3x3mm, Pitch 0.50mm, IPC Medium Density)
footprint LT-MS-10_L (SOP, 10-Leads, Body 3x3mm, Pitch 0.50mm, IPC High Density)
footprint LT-MS-10_M (SOP, 10-Leads, Body 3x3mm, Pitch 0.50mm, IPC Low Density)
pins: 1 IN1 (in), 2 IN2 (in), 3 IN3 (in), 4 GND (power), 5 VEE (power), 6 NC, 7 OUT3 (out), 8 OUT2 (out), 9 OUT1 (out), 10 VCC (power)

## LT6550IMS#PBF
designator U?
3 Channel, 3V RGB Driver with Av = 2, 110 MHz Typical GBW, 340 V/us Typical SR, 3 to 12.6 V, 10-Pin SOP (MS-10), Industrial, Pb-Free; Linear Technology Part Number: LT6550; Manufacturer: Linear Technology; PartNumber: LT6550IMS#PBF; Channels (#): 3; GBW (MHz) Typical: 110; Is (mA) Typical: 9.5; SR (V/us) Typical: 340; Vos (mV) Guaranteed: 35; Vos (mV) Typical: 15; Vs Max (V): 12.6; DatasheetVersion: Rev. A; PackageVersion: Rev E; PackageReference: LT-MS-10; PackageDescription: 10-Lead Plastic MSOP, Body 3 x 3 mm, Pitch 0.5 mm; Supplier 1: Digi-Key; Supplier Part Number 1: LT6550IMS#PBF-ND; Supplier 2: Farnell; Supplier Part Number 2: 2294770; RoHS: Pb-Free; Type: VIDEO; Vs Min (V): 3; Mounting Technology: Surface Mount; ComponentLink1Description: Manufacturer URL; ComponentLink1URL: http://www.linear.com/; ComponentLink2Description: Datasheet; ComponentLink2URL: http://cds.linear.com/docs/en/datasheet/65501fa.pdf; ComponentLink3Description: Package Specification; ComponentLink3URL: http://cds.linear.com/docs/en/packaging/MSOP_10_05-08-1661.pdf
footprint LT-MS-10_N (SOP, 10-Leads, Body 3x3mm, Pitch 0.50mm, IPC Medium Density)
footprint LT-MS-10_L (SOP, 10-Leads, Body 3x3mm, Pitch 0.50mm, IPC High Density)
footprint LT-MS-10_M (SOP, 10-Leads, Body 3x3mm, Pitch 0.50mm, IPC Low Density)
pins: 1 IN1 (in), 2 IN2 (in), 3 IN3 (in), 4 GND (power), 5 VEE (power), 6 NC, 7 OUT3 (out), 8 OUT2 (out), 9 OUT1 (out), 10 VCC (power)

## LT6550IMS#TR
designator U?
3 Channel, 3V RGB Driver with Av = 2, 110 MHz Typical GBW, 340 V/us Typical SR, 3 to 12.6 V, 10-Pin SOP (MS-10), Industrial, Reel; Linear Technology Part Number: LT6550; Manufacturer: Linear Technology; PartNumber: LT6550IMS#TR; Channels (#): 3; GBW (MHz) Typical: 110; Is (mA) Typical: 9.5; SR (V/us) Typical: 340; Vos (mV) Guaranteed: 35; Vos (mV) Typical: 15; Vs Max (V): 12.6; DatasheetVersion: Rev. A; PackageVersion: Rev E; PackageReference: LT-MS-10; PackageDescription: 10-Lead Plastic MSOP, Body 3 x 3 mm, Pitch 0.5 mm; Supplier 1: Digi-Key; Supplier Part Number 1: LT6550IMS#TR-ND; Packing: Reel; Type: VIDEO; Vs Min (V): 3; Mounting Technology: Surface Mount; ComponentLink1Description: Manufacturer URL; ComponentLink1URL: http://www.linear.com/; ComponentLink2Description: Datasheet; ComponentLink2URL: http://cds.linear.com/docs/en/datasheet/65501fa.pdf; ComponentLink3Description: Package Specification; ComponentLink3URL: http://cds.linear.com/docs/en/packaging/MSOP_10_05-08-1661.pdf
footprint LT-MS-10_N (SOP, 10-Leads, Body 3x3mm, Pitch 0.50mm, IPC Medium Density)
footprint LT-MS-10_L (SOP, 10-Leads, Body 3x3mm, Pitch 0.50mm, IPC High Density)
footprint LT-MS-10_M (SOP, 10-Leads, Body 3x3mm, Pitch 0.50mm, IPC Low Density)
pins: 1 IN1 (in), 2 IN2 (in), 3 IN3 (in), 4 GND (power), 5 VEE (power), 6 NC, 7 OUT3 (out), 8 OUT2 (out), 9 OUT1 (out), 10 VCC (power)

## LT6550IMS#TRPBF
designator U?
3 Channel, 3V RGB Driver with Av = 2, 110 MHz Typical GBW, 340 V/us Typical SR, 3 to 12.6 V, 10-Pin SOP (MS-10), Industrial, Pb-Free, Reel; Linear Technology Part Number: LT6550; Manufacturer: Linear Technology; PartNumber: LT6550IMS#TRPBF; Channels (#): 3; GBW (MHz) Typical: 110; Is (mA) Typical: 9.5; SR (V/us) Typical: 340; Vos (mV) Guaranteed: 35; Vos (mV) Typical: 15; Vs Max (V): 12.6; DatasheetVersion: Rev. A; PackageVersion: Rev E; PackageReference: LT-MS-10; PackageDescription: 10-Lead Plastic MSOP, Body 3 x 3 mm, Pitch 0.5 mm; Supplier 1: Digi-Key; Supplier Part Number 1: LT6550IMS#TRPBF-ND; Packing: Reel; RoHS: Pb-Free; Type: VIDEO; Vs Min (V): 3; Mounting Technology: Surface Mount; ComponentLink1Description: Manufacturer URL; ComponentLink1URL: http://www.linear.com/; ComponentLink2Description: Datasheet; ComponentLink2URL: http://cds.linear.com/docs/en/datasheet/65501fa.pdf; ComponentLink3Description: Package Specification; ComponentLink3URL: http://cds.linear.com/docs/en/packaging/MSOP_10_05-08-1661.pdf
footprint LT-MS-10_N (SOP, 10-Leads, Body 3x3mm, Pitch 0.50mm, IPC Medium Density)
footprint LT-MS-10_L (SOP, 10-Leads, Body 3x3mm, Pitch 0.50mm, IPC High Density)
footprint LT-MS-10_M (SOP, 10-Leads, Body 3x3mm, Pitch 0.50mm, IPC Low Density)
pins: 1 IN1 (in), 2 IN2 (in), 3 IN3 (in), 4 GND (power), 5 VEE (power), 6 NC, 7 OUT3 (out), 8 OUT2 (out), 9 OUT1 (out), 10 VCC (power)

## LT6551CMS
designator U?
Quad Channel, 3V RGB + Sync Driver with Av = 2, 110 MHz Typical GBW, 340 V/us Typical SR, 3 to 12.6 V, 10-Pin SOP (MS-10), Commercial; Linear Technology Part Number: LT6551; Manufacturer: Linear Technology; PartNumber: LT6551CMS; Channels (#): 4; GBW (MHz) Typical: 110; Is (mA) Typical: 9.5; SR (V/us) Typical: 340; Vos (mV) Guaranteed: 35; Vos (mV) Typical: 15; Vs Max (V): 12.6; Vs Min (V): 3; DatasheetVersion: Rev. A; PackageVersion: Rev E; PackageReference: LT-MS-10; PackageDescription: 10-Lead Plastic MSOP, Body 3 x 3 mm, Pitch 0.5 mm; Supplier 1: Digi-Key; Supplier Part Number 1: LT6551CMS-ND; Type: VIDEO; Mounting Technology: Surface Mount; ComponentLink1Description: Manufacturer URL; ComponentLink1URL: http://www.linear.com/; ComponentLink2Description: Datasheet; ComponentLink2URL: http://cds.linear.com/docs/en/datasheet/65501fa.pdf; ComponentLink3Description: Package Specification; ComponentLink3URL: http://cds.linear.com/docs/en/packaging/MSOP_10_05-08-1661.pdf
footprint LT-MS-10_N (SOP, 10-Leads, Body 3x3mm, Pitch 0.50mm, IPC Medium Density)
footprint LT-MS-10_L (SOP, 10-Leads, Body 3x3mm, Pitch 0.50mm, IPC High Density)
footprint LT-MS-10_M (SOP, 10-Leads, Body 3x3mm, Pitch 0.50mm, IPC Low Density)
pins: 1 IN1 (in), 2 IN2 (in), 3 IN3 (in), 4 IN4 (in), 5 GND (power), 6 OUT4 (out), 7 OUT3 (out), 8 OUT2 (out), 9 OUT1 (out), 10 VCC (power)